# EAGLE library part HARWIN-M52-12 (library jason-test)
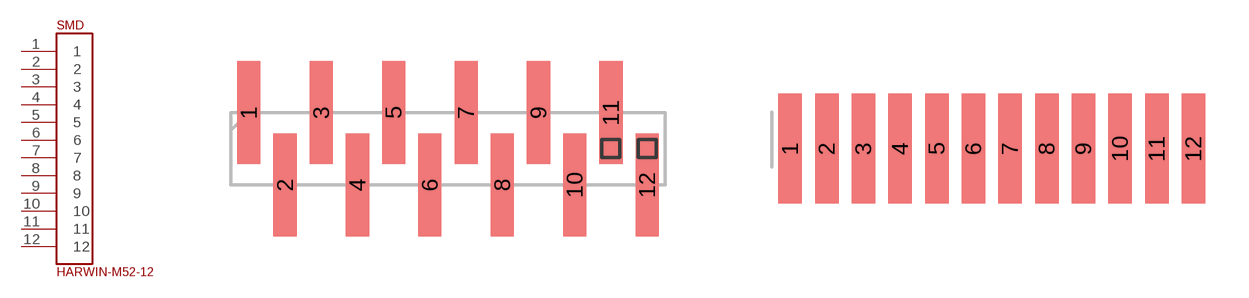
[diagram p30: symbol with the pads of HARWIN-M52-040000P1245; footprints HARWIN-M52-040000P1245, HARWIN-M52-040000P1245E]

Designator prefix SMD

## HARWIN-M52-12SMD  [HARWIN-M52-040000P1245]
1  1
2  2
3  3
4  4
5  5
6  6
7  7
8  8
9  9
10  10
11  11
12  12

## HARWIN-M52-12SMDE  [HARWIN-M52-040000P1245E]
Pads as for HARWIN-M52-040000P1245

## Footprint HARWIN-M52-040000P1245 (pad centres in mm)
smd 0.813 x 3.607: 1 -6.985,1.27; 2 -5.715,-1.27; 3 -4.445,1.27; 4 -3.175,-1.27; 5 -1.905,1.27; 6 -0.635,-1.27; 7 0.635,1.27; 8 1.905,-1.27; 9 3.175,1.27; 10 4.445,-1.27; 11 5.715,1.27; 12 6.985,-1.27

## Footprint HARWIN-M52-040000P1245E (pad centres in mm)
smd 0.813 x 3.81: 1 -6.985,1.905; 2 -5.715,1.905; 3 -4.445,1.905; 4 -3.175,1.905; 5 -1.905,1.905; 6 -0.635,1.905; 7 0.635,1.905; 8 1.905,1.905; 9 3.175,1.905; 10 4.445,1.905; 11 5.715,1.905; 12 6.985,1.905